# EAGLE library part L5973D (library dc-dc-regulators)
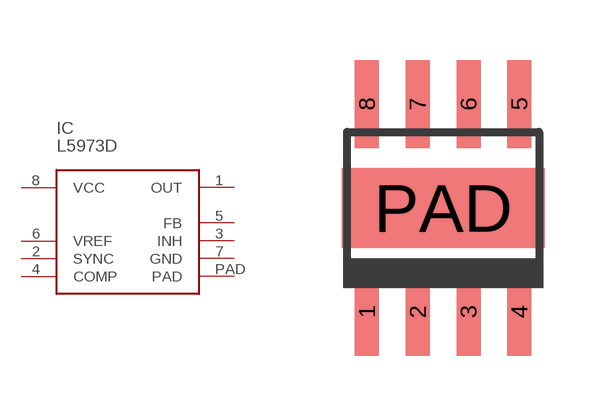
[diagram p1: symbol with the pads of POWERSO8; footprint POWERSO8]

Designator prefix IC

## L5973D  [POWERSO8]
1  OUT
2  SYNC
3  INH
4  COMP
5  FB
6  VREF
7  GND
8  VCC
PAD  PAD

## Footprint POWERSO8 (pad centres in mm)
SMALL OUTLINE INTEGRATED CIRCUIT
smd 0.6 x 2.2: 1 -1.905,-2.6; 2 -0.635,-2.6; 3 0.635,-2.6; 4 1.905,-2.6; 5 1.905,2.6; 6 0.635,2.6; 7 -0.635,2.6; 8 -1.905,2.6
smd 5.08 x 2: PAD 0,0